# EAGLE library part TEXAS_INSTRUMENTS-I2C_MUX-TCA9544APWR (library Module_ICs)
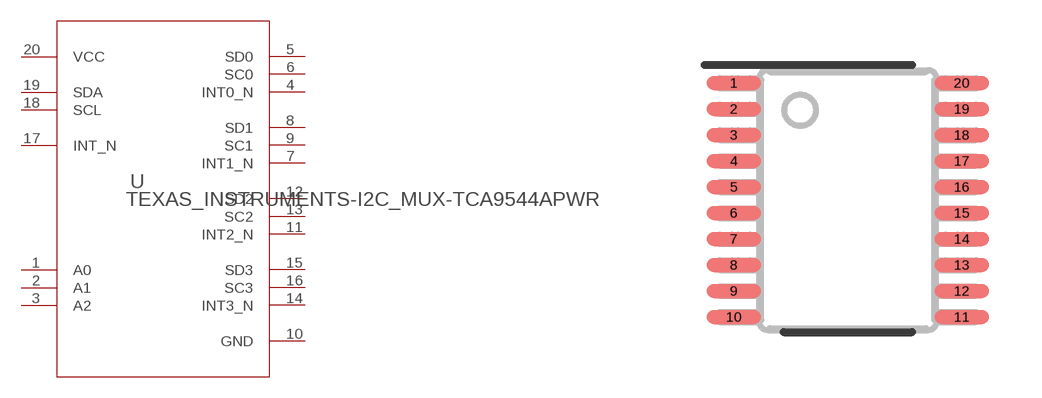
[diagram p49: symbol with the pads of TEXAS_INSTRUMENTS-I2C_MUX-TCA9544APWR; footprint TEXAS_INSTRUMENTS-I2C_MUX-TCA9544APWR]

Designator prefix U

## TEXAS_INSTRUMENTS-I2C_MUX-TCA9544APWR (COMPTYPE: IC; MANUFACTURER: Texas Instruments; MOUNTTYPE: SMT; PACKAGEREFERENCE: PW0020A; PARTNUMBER: TCA9544APWR; PIN_COUNT: 20; REFDES: RefDes; ROHS: Y; SYMBOLVERISON: 20150504; TYPE: TYPE; VALUE: Value)  [TEXAS_INSTRUMENTS-I2C_MUX-TCA9544APWR]
1  A0  in
2  A1  in
3  A2  in
4  INT0_N  in
5  SD0
6  SC0  out
7  INT1_N  in
8  SD1
9  SC1  out
10  GND  pwr
11  INT2_N  in
12  SD2
13  SC2  out
14  INT3_N  in
15  SD3
16  SC3  out
17  INT_N  out
18  SCL  in
19  SDA  in
20  VCC  pwr

## Footprint TEXAS_INSTRUMENTS-I2C_MUX-TCA9544APWR (pad centres in mm)
smd 1.35 x 0.35: 1 -2.85,2.925; 2 -2.85,2.275; 3 -2.85,1.625; 4 -2.85,0.975; 5 -2.85,0.325; 6 -2.85,-0.325; 7 -2.85,-0.975; 8 -2.85,-1.625; 9 -2.85,-2.275; 10 -2.85,-2.925; 11 2.85,-2.925; 12 2.85,-2.275; 13 2.85,-1.625; 14 2.85,-0.975; 15 2.85,-0.325; 16 2.85,0.325; 17 2.85,0.975; 18 2.85,1.625; 19 2.85,2.275; 20 2.85,2.925